# Altium footprint library PCB-Tester-Relay-Board.PcbLib: 41 footprints (part 2 of 3)
Each footprint in its own frame and in the unit in brackets; x right, y up, seen from the top. Pads: shape width x height; smd on the part's side, far side on the other; paste and mask are expansions set on the pad; w line width, h text height; cw(c..) or ccw(c..) is an arc to the next point about the centre after c.
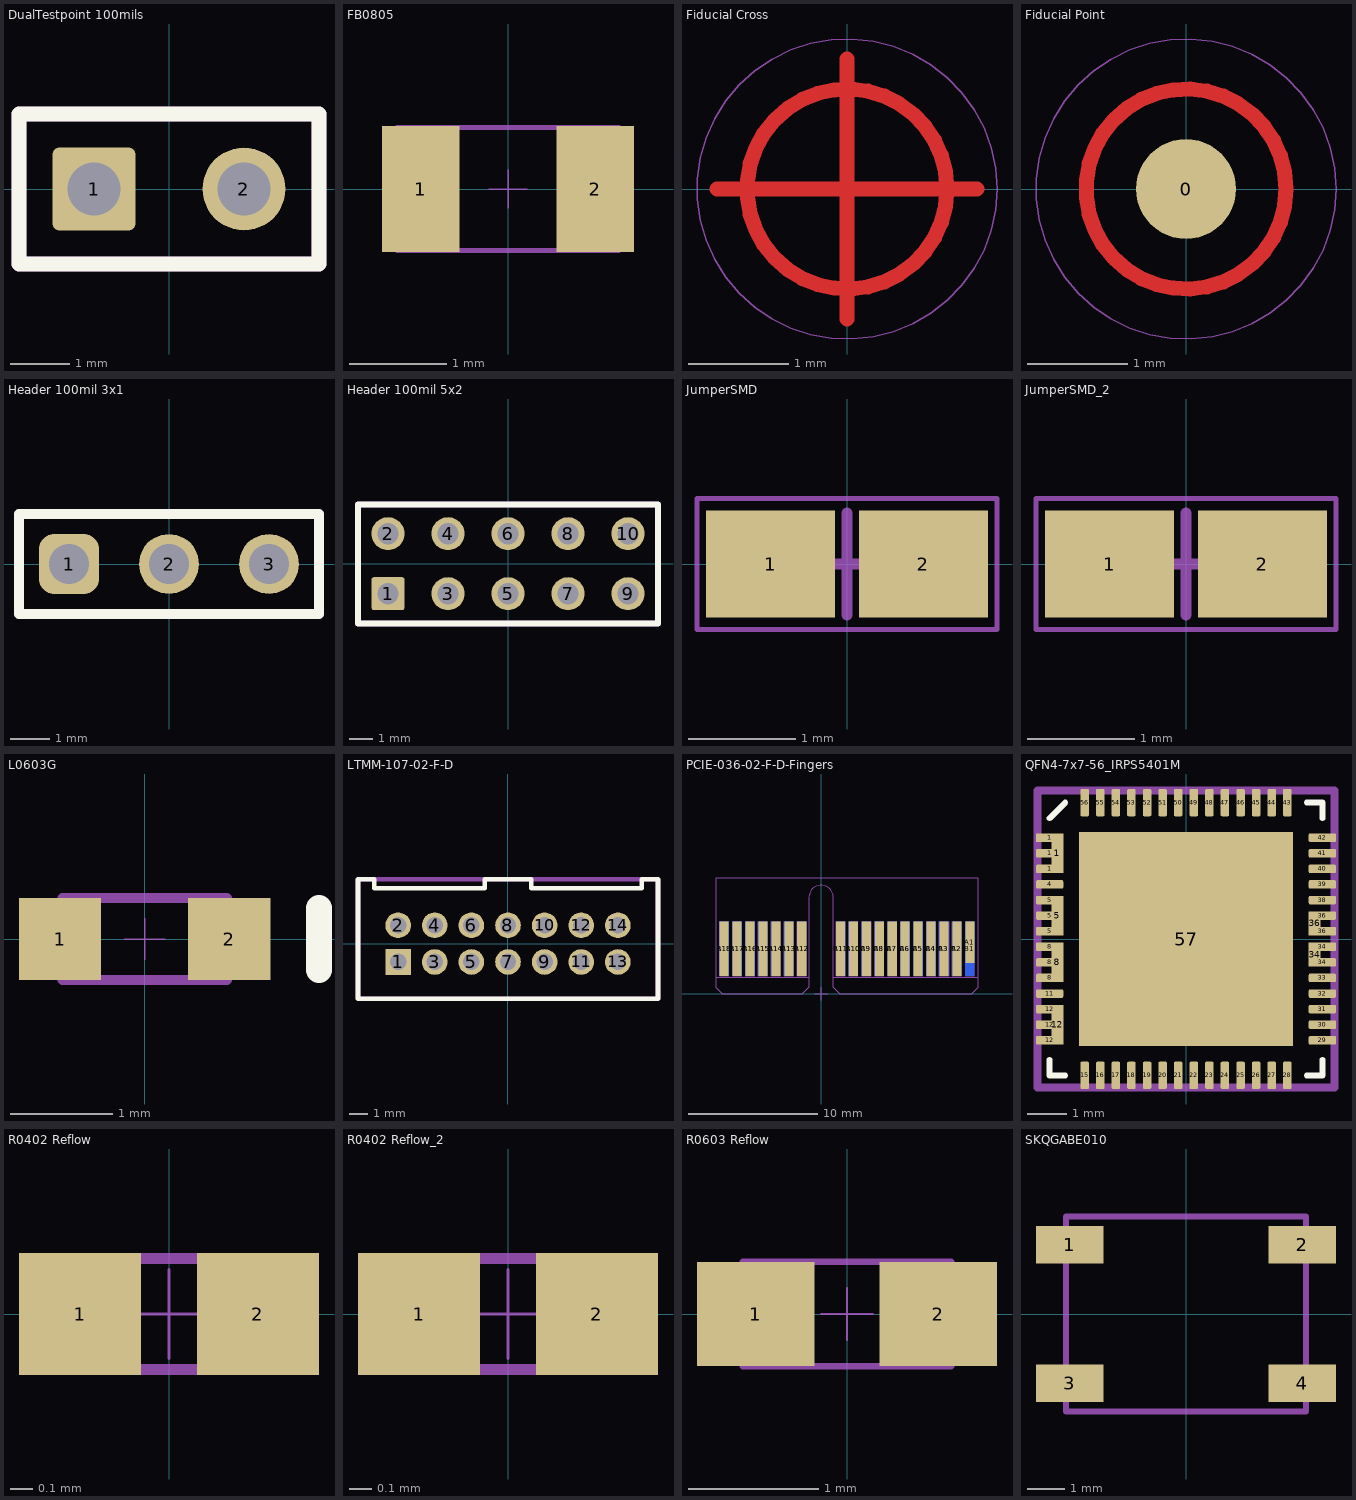
[diagram p1: the footprints below, top view; thin cyan lines are the x and y axes]

## DualTestpoint 100mils [mm] "Testpoint"
pads (2):
  rrect15% 1.4x1.4 hole 0.9: 1(-1.27,0)
  round 1.4 hole 0.9: 2(1.27,0)
Top Overlay:
  lines w0.254: -2.54,-1.27 2.54,-1.27 2.54,1.27 -2.54,1.27 -2.54,-1.27
Top Courtyard:
  lines w0.254: -2.54,-1.27 2.54,-1.27 2.54,1.27 -2.54,1.27 -2.54,-1.27

## FB0805 [mm] "SMT Ferrite Bead 0805"
pads (2):
  rect 0.8x1.3 smd: 1(-0.9,0) 2(0.9,0)
Top Courtyard:
  lines w0.05: -1.15,-0.635 -1.15,0.635 1.15,0.635 1.15,-0.635 -1.15,-0.635
Mechanical 17:
  lines w0.013: -0.2,0 0.2,0 ; 0,-0.2 0,0.2
3D body "MPZ2012.STEP": height 1.05, standoff 0, extent -1.15,-0.635 1.15,0.635

## Fiducial Cross [mm]
Top Layer:
  circle w0.15: c0,0 r1
  lines w0.15: -1.3,0 1.3,0 ; 0,-1.3 0,1.3
Top Solder:
  region: 0,0
  region: 0,-1.5 -0.148,-1.5 -0.438,-1.442 -0.711,-1.329 -0.956,-1.165 -1.165,-0.956 -1.329,-0.711 -1.442,-0.438 -1.5,-0.148 -1.5,0 -1.5,0.148 -1.442,0.438 -1.329,0.711 -1.165,0.956 -0.956,1.165 -0.711,1.329 -0.438,1.442 -0.148,1.5 0,1.5 0.148,1.5 0.438,1.442 0.711,1.329 0.956,1.165 1.165,0.956 1.329,0.711 1.442,0.438 1.5,0.148 1.5,0 1.5,-0.148 1.442,-0.438 1.329,-0.711 1.165,-0.956 0.956,-1.165 0.711,-1.329 0.438,-1.442 0.148,-1.5
Mechanical 17:
  circle w0.013: c0,0 r1.5

## Fiducial Point [mm]
pads (1):
  round 1 smd paste+0 mask+0: 0(0,0)
Top Layer:
  circle w0.15: c0,0 r1
Top Solder:
  region: 0,-1.5 -0.148,-1.5 -0.438,-1.442 -0.711,-1.329 -0.956,-1.165 -1.165,-0.956 -1.329,-0.711 -1.442,-0.438 -1.5,-0.148 -1.5,0 -1.5,0.148 -1.442,0.438 -1.329,0.711 -1.165,0.956 -0.956,1.165 -0.711,1.329 -0.438,1.442 -0.148,1.5 0,1.5 0.148,1.5 0.438,1.442 0.711,1.329 0.956,1.165 1.165,0.956 1.329,0.711 1.442,0.438 1.5,0.148 1.5,0 1.5,-0.148 1.442,-0.438 1.329,-0.711 1.165,-0.956 0.956,-1.165 0.711,-1.329 0.438,-1.442 0.148,-1.5
Mechanical 17:
  circle w0.013: c0,0 r1.5

## Header 100mil 3x1 [mil] "HMTSW-103-07-G-S-240"
pads (3):
  rrect50% 60x60 hole 40: 1(-100,0)
  round 60 hole 40: 2(0,0) 3(100,0)
Top Overlay:
  lines w10: -150,-50 150,-50 150,50 -150,50 -150,-50
  text "." at -102.76,-70.87 h39.37
Top Courtyard:
  lines w10: -150,-50 150,-50 150,50 -150,50 -150,-50
3D body "HMTSW-103-07-G-S-240.STEP": height 340, standoff -90, extent -149.99,-48.99 150.01,49

## Header 100mil 5x2 [mm]
pads (10):
  rrect15% 1.4x1.4 hole 0.9: 1(-5.08,-1.27)
  round 1.4 hole 0.9: 2(-5.08,1.27) 3(-2.54,-1.27) 4(-2.54,1.27) 5(0,-1.27) 6(0,1.27) 7(2.54,-1.27) 8(2.54,1.27) 9(5.08,-1.27) 10(5.08,1.27)
Top Overlay:
  lines w0.254: -6.35,-2.54 -6.35,2.515 6.35,2.515 6.35,-2.54 -6.35,-2.54
  text "." at -5.15,-3.07 h1
Top Courtyard:
  lines w0.254: -6.35,-2.54 -6.35,2.515 6.35,2.515 6.35,-2.54 -6.35,-2.54
3D body "HMTSW-103-07-G-S-240.STEP": height 8.64, standoff -2.29, extent -6.35,-2.514 1.27,-0.025
3D body "HMTSW-103-07-G-S-240.STEP": height 8.64, standoff -2.29, extent -1.27,-2.515 6.35,-0.026
3D body "HMTSW-103-07-G-S-240.STEP": height 8.64, standoff -2.29, extent -6.35,0.026 1.27,2.515
3D body "HMTSW-103-07-G-S-240.STEP": height 8.64, standoff -2.29, extent -1.27,0.025 6.35,2.514

## JumperSMD [mm] "Chip Resistor, Body 1.6x0.8mm (LxW typ), IPC High Density"
height 10
pads (2):
  rect 1.2x1 smd: 1(-0.711,0) 2(0.711,0)
Top Courtyard:
  lines w0.05: -1.397,-0.61 1.397,-0.61 1.397,0.61 -1.397,0.61 -1.397,-0.61
Mechanical 17:
  lines w0.1: -0.475,0 0.475,0 ; 0,-0.475 0,0.475 0,-0.475
3D body "R0603.STEP": height 0.45, standoff 0, extent -0.889,-0.4 0.711,0.4

## JumperSMD_2 [mm]
pads (2):
  rect 1.2x1 smd: 1(-0.711,0) 2(0.711,0)
Top Courtyard:
  lines w0.05: -1.397,-0.61 1.397,-0.61 1.397,0.61 -1.397,0.61 -1.397,-0.61
Mechanical 17:
  lines w0.1: -0.475,0 0.475,0 ; 0,-0.475 0,0.475 0,-0.475
3D body "R0603.STEP": height 0.45, standoff 0, extent -0.889,-0.4 0.711,0.4

## L0603G [mm] "LTST-C191KGKT"
pads (2):
  rect 0.8x0.8 smd: 1(-0.825,0) 2(0.825,0)
Top Overlay:
  lines w0.254: 1.7,-0.3 1.7,0.3
Top Courtyard:
  lines w0.1: -0.8,-0.4 -0.8,0.4 0.8,0.4 0.8,-0.4 -0.8,-0.4
Mechanical 17:
  lines w0.013: -0.2,0 0.2,0 ; 0,-0.2 0,0.2
3D body "L0603G.STEP": height 0.8, standoff 0, extent -0.8,-0.4 0.8,0.4

## LTMM-107-02-F-D [mm] "CONN HEADER VERT 14POS 2MM (Xilinx JTAG)"
pads (14):
  rect 1.4x1.4 hole 0.9 paste+0: 1(-6,-1)
  round 1.4 hole 0.9 paste+0: 2(-6,1) 3(-4,-1) 4(-4,1) 5(-2,-1) 6(-2,1) 7(0,-1) 8(0,1) 9(2,-1) 10(2,1) 11(4,-1) 12(4,1) 13(6,-1) 14(6,1)
Top Overlay:
  lines w0.254: -8.191,-3.015 -8.191,3.523 -7.3,3.523 -7.3,3.023 -1.27,3.023 -1.27,3.523 1.27,3.523 1.27,3.023 7.3,3.023 7.3,3.523 8.191,3.523 8.191,-3.015 -8.191,-3.015
Top Courtyard:
  lines w0.254: -8.191,-3.015 -8.191,3.523 8.191,3.523 8.191,-3.015 -8.191,-3.015
3D body "LTMM-107-02-F-D.STEP": height 4.83, standoff -2.97, extent -8.191,-3.015 8.191,3.523

## PCIE-036-02-F-D-Fingers [mm] "PCB contacts for PCIE-036-02-F-D-TH"
pads (36):
  rect 0.7x3.2 smd paste-2: A1(11.5,4)
  rect 0.7x4.2 smd paste-2: A2(10.5,3.5) A3(9.5,3.5) A4(8.5,3.5) A5(7.5,3.5) A6(6.5,3.5) A7(5.5,3.5) A8(4.5,3.5) A9(3.5,3.5) A10(2.5,3.5) A11(1.5,3.5) A12(-1.5,3.5) A13(-2.5,3.5) A14(-3.5,3.5) A15(-4.5,3.5) A16(-5.5,3.5) A17(-6.5,3.5) A18(-7.5,3.5)
  rect 0.7x4.2 smd far side paste-2: B1(11.5,3.5) B2(10.5,3.5) B3(9.5,3.5) B4(8.5,3.5) B5(7.5,3.5) B6(6.5,3.5) B7(5.5,3.5) B8(4.5,3.5) B9(3.5,3.5) B10(2.5,3.5) B11(1.5,3.5) B12(-1.5,3.5) B13(-2.5,3.5) B14(-3.5,3.5) B15(-4.5,3.5) B16(-5.5,3.5) B17(-6.5,3.5) B18(-7.5,3.5)
Mechanical 17:
  lines w0.013: -8.15,1.3 -0.95,1.3 ; -0.5,0 0.5,0 ; 0,-0.5 0,0.5 ; 0.95,1.3 12.15,1.3 ; -8.15,0.5 -7.65,0 -1.45,0 -0.95,0.5 -0.95,7.46 cw(c0,7.46) 0.95,7.46 0.95,0.5 1.45,0 11.65,0 12.15,0.5 12.15,9 -8.15,9 -8.15,0.5 ; -7.85,1.4 -7.15,1.4 -7.15,5.6 -7.85,5.6 -7.85,1.4 ; -6.85,1.4 -6.15,1.4 -6.15,5.6 -6.85,5.6 -6.85,1.4 ; -5.85,1.4 -5.15,1.4 -5.15,5.6 -5.85,5.6 -5.85,1.4 ; -4.85,1.4 -4.15,1.4 -4.15,5.6 -4.85,5.6 -4.85,1.4 ; -3.85,1.4 -3.15,1.4 -3.15,5.6 -3.85,5.6 -3.85,1.4 ; -2.85,1.4 -2.15,1.4 -2.15,5.6 -2.85,5.6 -2.85,1.4 ; -1.85,1.4 -1.15,1.4 -1.15,5.6 -1.85,5.6 -1.85,1.4 ; 1.15,1.4 1.15,5.6 1.85,5.6 1.85,1.4 1.15,1.4 ; 2.15,1.4 2.85,1.4 2.85,5.6 2.15,5.6 2.15,1.4 ; 3.15,1.4 3.85,1.4 3.85,5.6 3.15,5.6 3.15,1.4 ; 4.15,1.4 4.85,1.4 4.85,5.6 4.15,5.6 4.15,1.4 ; 5.15,1.4 5.85,1.4 5.85,5.6 5.15,5.6 5.15,1.4 ; 6.15,1.4 6.85,1.4 6.85,5.6 6.15,5.6 6.15,1.4 ; 7.15,1.4 7.85,1.4 7.85,5.6 7.15,5.6 7.15,1.4 ; 8.15,1.4 8.85,1.4 8.85,5.6 8.15,5.6 8.15,1.4 ; 9.15,1.4 9.85,1.4 9.85,5.6 9.15,5.6 9.15,1.4 ; 10.15,1.4 10.85,1.4 10.85,5.6 10.15,5.6 10.15,1.4 ; 11.15,1.4 11.85,1.4 11.85,5.6 11.15,5.6 11.15,1.4

## QFN4-7x7-56_IRPS5401M [mm] "QFN, 7x7mm, 56 pins, pitch 0.4mm, IRPS5401 version"
height 1
pads (63):
  rrect33% 0.7x0.22 smd: 1(-3.5,1.8) 1(-3.5,2.2) 4(-3.5,1.4) 5(-3.5,0.2) 5(-3.5,0.6) 5(-3.5,1) 8(-3.5,-1) 8(-3.5,-0.6) 8(-3.5,-0.2) 11(-3.5,-1.4) 12(-3.5,-2.6) 12(-3.5,-2.2) 12(-3.5,-1.8) 29(3.5,-2.6) 30(3.5,-2.2) 31(3.5,-1.8) 32(3.5,-1.4) 33(3.5,-1) 34(3.5,-0.6) 34(3.5,-0.2) 36(3.5,0.2) 36(3.5,0.6) 38(3.5,1) 39(3.5,1.4) 40(3.5,1.8) 41(3.5,2.2) 42(3.5,2.6)
  rect 0.7x0.22 smd: 1(-3.5,2.6)
  rect 0.31x1.02 smd: 1(-3.3,2.2) 5(-3.3,0.6) 8(-3.3,-0.6) 12(-3.3,-2.2)
  rrect33% 0.22x0.7 smd: 15(-2.6,-3.5) 16(-2.2,-3.5) 17(-1.8,-3.5) 18(-1.4,-3.5) 19(-1,-3.5) 20(-0.6,-3.5) 21(-0.2,-3.5) 22(0.2,-3.5) 23(0.6,-3.5) 24(1,-3.5) 25(1.4,-3.5) 26(1.8,-3.5) 27(2.2,-3.5) 28(2.6,-3.5) 43(2.6,3.5) 44(2.2,3.5) 45(1.8,3.5) 46(1.4,3.5) 47(1,3.5) 48(0.6,3.5) 49(0.2,3.5) 50(-0.2,3.5) 51(-0.6,3.5) 52(-1,3.5) 53(-1.4,3.5) 54(-1.8,3.5) 55(-2.2,3.5) 56(-2.6,3.5)
  rect 0.31x0.62 smd: 34(3.3,-0.4) 36(3.3,0.4)
  rect 5.5x5.5 smd: 57(0,0)
Top Overlay:
  lines w0.152: -3.5,-3.1 -3.5,-3.5 -3.1,-3.5 ; -3.5,3.1 -3.1,3.5 ; 3.1,-3.5 3.5,-3.5 3.5,-3.1 ; 3.1,3.5 3.5,3.5 3.5,3.1
Top Courtyard:
  lines w0.2: -3.814,-3.814 3.814,-3.814 3.814,3.814 -3.814,3.814 -3.814,-3.814
3D body: height 1, standoff 1, extent -3.248,2.751 -2.75,3.25
3D body: height 1, standoff 0, extent -3.5,-3.5 3.5,3.5

## R0402 Reflow [mm] "SMT Resistor 0402 Reflow Soldering"
pads (2):
  rect 0.55x0.55 smd: 1(-0.4,0) 2(0.4,0)
Top Solder:
  rectangle: -0.3,-0.377 0.3,0.377
Top Courtyard:
  lines w0.05: -0.5,-0.25 -0.5,0.25 0.5,0.25 0.5,-0.25 -0.5,-0.25
Mechanical 17:
  lines w0.013: -0.2,0 0.2,0 ; 0,-0.2 0,0.2
3D body "R0402.STEP": height 0.35, standoff 0, extent -0.5,-0.25 0.5,0.25

## R0402 Reflow_2 [mm]
pads (2):
  rect 0.55x0.55 smd: 1(-0.4,0) 2(0.4,0)
Top Solder:
  rectangle: -0.3,-0.377 0.3,0.377
Top Courtyard:
  lines w0.05: -0.5,-0.25 -0.5,0.25 0.5,0.25 0.5,-0.25 -0.5,-0.25
Mechanical 17:
  lines w0.013: -0.2,0 0.2,0 ; 0,-0.2 0,0.2
3D body "R0402.STEP": height 0.35, standoff 0, extent -0.5,-0.25 0.5,0.25

## R0603 Reflow [mm] "SMT Resistor 0603 Reflow Soldering"
pads (2):
  rect 0.9x0.8 smd: 1(-0.7,0) 2(0.7,0)
Top Courtyard:
  lines w0.05: -0.8,-0.4 -0.8,0.4 0.8,0.4 0.8,-0.4 -0.8,-0.4
Mechanical 17:
  lines w0.013: -0.2,0 0.2,0 ; 0,-0.2 0,0.2
3D body "R0603.STEP": height 0.45, standoff 0, extent -0.8,-0.4 0.8,0.4

## SKQGABE010 [mm] "5.2mm square low-profile TACT switch"
height 1.5
pads (4):
  rect 1.8x1 smd: 1(-3.1,1.85) 2(3.1,1.85) 3(-3.1,-1.85) 4(3.1,-1.85)
Top Courtyard:
  lines w0.152: -3.2,-2.6 -3.2,2.6 0,2.6 3.2,2.6 3.2,-2.6 -3.2,-2.6
3D body: height 1.5, standoff 1.2, extent -0.992,-0.998 1,0.998
3D body: height 1.2, standoff 0, extent -2.6,-2.6 2.6,2.6
3D body: height 0.3, standoff 0, extent 2.1,1.6 3.2,2.1
3D body: height 0.3, standoff 0, extent -3.2,-2.1 -2.1,-1.6
3D body: height 0.3, standoff 0, extent 2.1,-2.1 3.2,-1.6
3D body: height 0.3, standoff 0, extent -3.2,1.6 -2.1,2.1